# EAGLE library part CH340N (library CH340N)
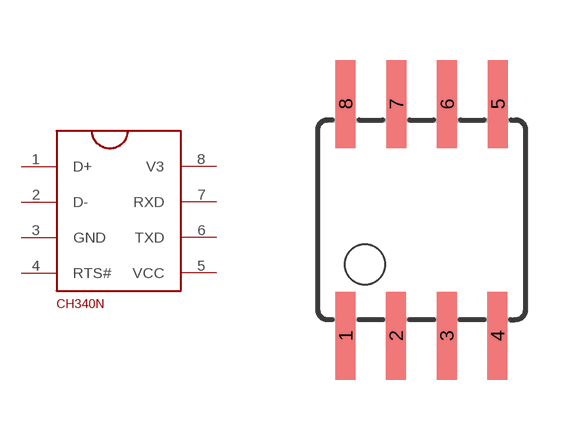
[diagram p0: symbol with the pads of SOP-8; footprint SOP-8]

Designator prefix -

## CH340NSOP-8  [SOP-8]
1  D+
2  D-
3  GND
4  RTS#
5  VCC
6  TXD
7  RXD
8  V3

## Footprint SOP-8 (pad centres in mm)
smd 0.5 x 2.2: 1 -1.905,-2.9; 2 -0.645,-2.9; 3 0.625,-2.9; 4 1.895,-2.9; 5 1.905,2.9; 6 0.635,2.9; 7 -0.635,2.9; 8 -1.905,2.9